# EAGLE library part LCD162C (library chipdesign2016)
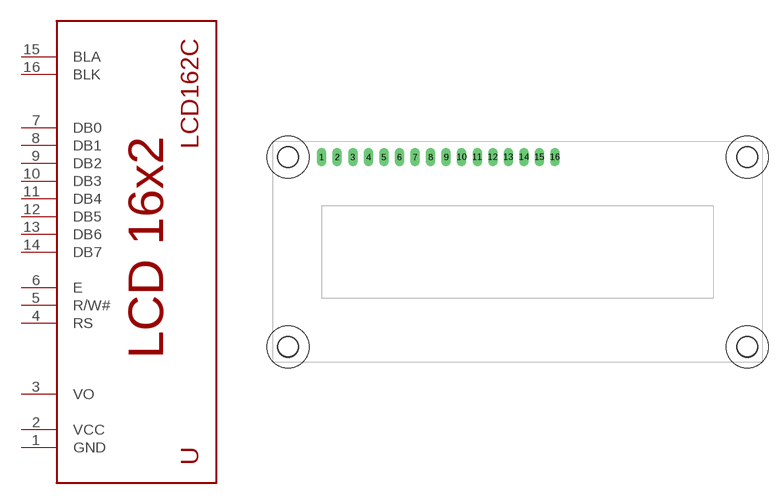
[diagram p2: symbol with the pads of LCD162C; footprint LCD162C]

Designator prefix -

## LCD162C  [LCD162C]
1  GND  pwr
2  VCC  pwr
3  VO
4  RS
5  R/W#
6  E
7  DB0
8  DB1
9  DB2
10  DB3
11  DB4
12  DB5
13  DB6
14  DB7
15  BLA
16  BLK

## Footprint LCD162C (pad centres in mm)
drill 1.016 long: 1 -32,15.5; 2 -29.46,15.5; 3 -26.92,15.5; 4 -24.38,15.5; 5 -21.84,15.5; 6 -19.3,15.5; 7 -16.76,15.5; 8 -14.22,15.5; 9 -11.68,15.5; 10 -9.14,15.5; 11 -6.6,15.5; 12 -4.06,15.5; 13 -1.52,15.5; 14 1.02,15.5; 15 3.56,15.5; 16 6.1,15.5
hole 3.2 at -37.5,15.5
hole 3.2 at -37.5,-15.5
hole 3.2 at 37.5,-15.5
hole 3.2 at 37.5,15.5